# EAGLE library part EHF-105-01-L-D-SM-LC (library EHF-105-01-L-D-SM-LC)
10 Position, .050" Shrouded IDC Header with Ejectors Source: Datasheet <http://suddendocs.samtec.com/prints/ehf-1xx-01-x-d-xx-xx-xx-mkt.pdf>
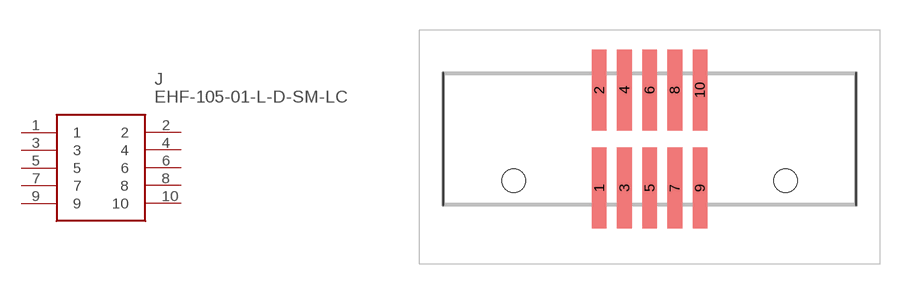
[diagram p0: symbol with the pads of EHF-105-01-XX-D-SM-LC; footprint EHF-105-01-XX-D-SM-LC]

Designator prefix J

## EHF-105-01-L-D-SM-LC (Description: 10 Position, .050&quot; Shrouded IDC Header with Ejectors; Height: mm; Manufacturer_Name: SAMTEC; Manufacturer_Part_Number: EHF-105-01-L-D-SM-LC; Mouser_Part_Number: 200-EHF10501LDSMLC; Mouser_Price-Stock: https://www.mouser.co.uk/ProductDetail/Samtec/EHF-105-01-L-D-SM-LC?qs=iT52DjcXudvuSMtK3643sA%3D%3D)  [EHF-105-01-XX-D-SM-LC]
1  1
2  2
3  3
4  4
5  5
6  6
7  7
8  8
9  9
10  10

## Footprint EHF-105-01-XX-D-SM-LC (pad centres in mm)
EHF-105-01-XX-D-SM-LC
smd 0.74 x 4.09: 1 -2.54,-2.475; 2 -2.54,2.475; 3 -1.27,-2.475; 4 -1.27,2.475; 5 0,-2.475; 6 0,2.475; 7 1.27,-2.475; 8 1.27,2.475; 9 2.54,-2.475; 10 2.54,2.475
hole 1.19 at -6.86,-2.11
hole 1.19 at 6.86,-2.11